# Altium schematic symbol library ADC-DAC Converter.SchLib: 1 symbol
Pins are listed as number, name and electrical type; pins without a type are passive.

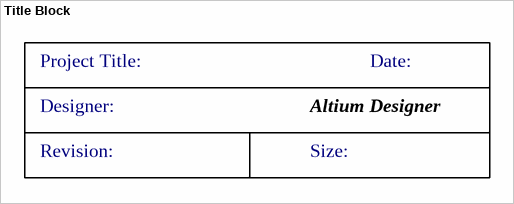
[diagram p0: symbol Title Block]

## Title Block
designator *  (value not drawn)  (graphical)
DateProject: -; Designer: -; ProjectTitle: -; RevisionProject: -; Size: -
text: Project Title:; Date:; Designer:; Altium Designer; Revision:; Size: